# EAGLE library part CP2110-F01-GM (library Silicon Labs)
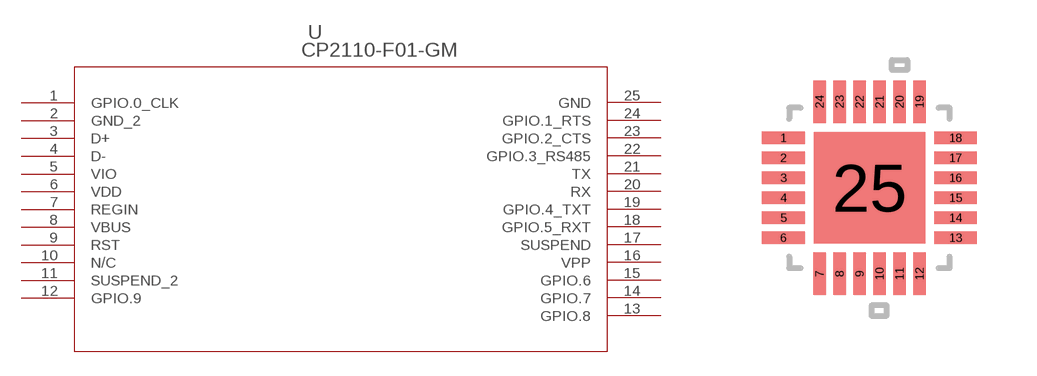
[diagram p7: symbol with the pads of CP2110-F01-GM; footprint CP2110-F01-GM]

Designator prefix U

## CP2110-F01-GM  [CP2110-F01-GM]
1  GPIO.0_CLK
2  GND_2  pwr
3  D+
4  D-
5  VIO  pwr
6  VDD  pwr
7  REGIN  in
8  VBUS  in
9  RST
10  N/C  nc
11  SUSPEND_2  out
12  GPIO.9
13  GPIO.8
14  GPIO.7
15  GPIO.6
16  VPP  pas
17  SUSPEND  out
18  GPIO.5_RXT
19  GPIO.4_TXT
20  RX  in
21  TX  out
22  GPIO.3_RS485
23  GPIO.2_CTS
24  GPIO.1_RTS
25  GND  pwr

## Footprint CP2110-F01-GM (pad centres in mm)
smd 1.067 x 0.305: 1 -2.152,1.25; 2 -2.152,0.75; 3 -2.152,0.25; 4 -2.152,-0.25; 5 -2.152,-0.75; 6 -2.152,-1.25; 13 2.152,-1.25; 14 2.152,-0.75; 15 2.152,-0.25; 16 2.152,0.25; 17 2.152,0.75; 18 2.152,1.25
smd 0.305 x 1.067: 7 -1.25,-2.152; 8 -0.75,-2.152; 9 -0.25,-2.152; 10 0.25,-2.152; 11 0.75,-2.152; 12 1.25,-2.152; 19 1.25,2.152; 20 0.75,2.152; 21 0.25,2.152; 22 -0.25,2.152; 23 -0.75,2.152; 24 -1.25,2.152
smd 2.794 x 2.794: 25 0,0